# Altium schematic symbol library LED0603.Schlib: 1 symbol
Pins are listed as number, name and electrical type; pins without a type are passive.

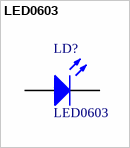
[diagram p0: symbol LED0603]

## LED0603
designator LD?
Surface Mount Chip LED, Red
footprint LED0603(1608) (Chip Resistor, Body 1.6x0.8mm, IPC Medium Density)
pins: 1 K, 2 A